# Altium footprint library USB_Host.PcbLib: 6 footprints
Each footprint in its own frame and in the unit in brackets; x right, y up, seen from the top. Pads: shape width x height; smd on the part's side, far side on the other; paste and mask are expansions set on the pad; w line width, h text height; cw(c..) or ccw(c..) is an arc to the next point about the centre after c.
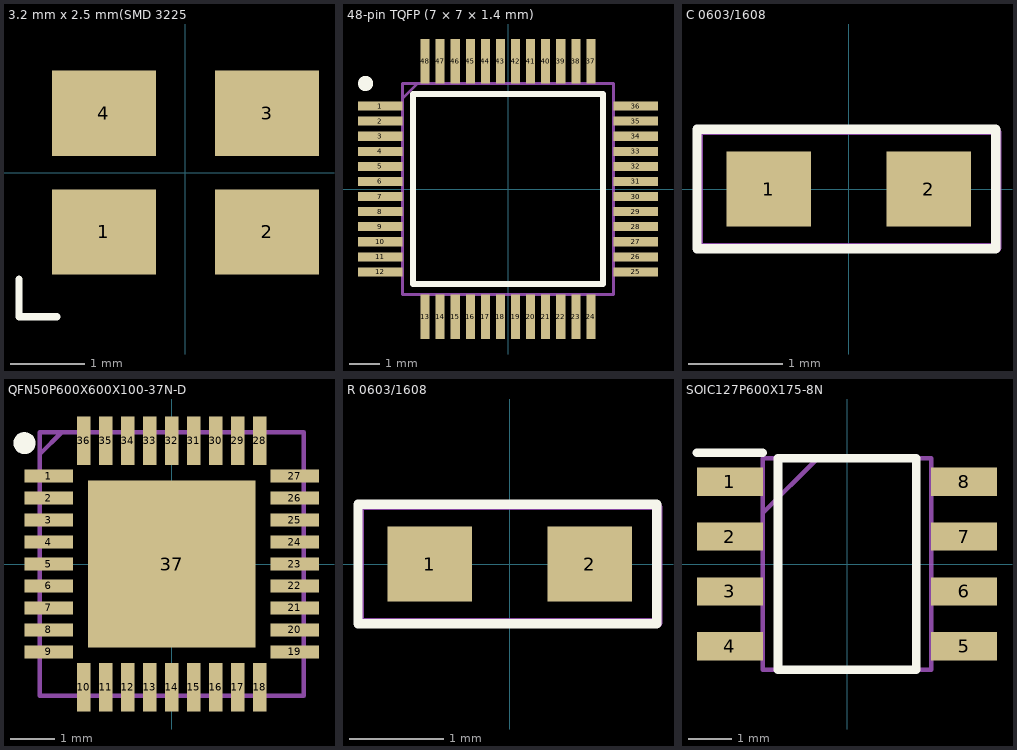
[diagram p0: the footprints below, top view; thin cyan lines are the x and y axes]

## 3.2 mm x 2.5 mm(SMD 3225 [mm] "SMD CRYSTAL 4P"
pads (4):
  rect 1.4x1.15 smd: 1(-1.1,-0.8) 2(1.1,-0.8) 3(1.1,0.8) 4(-1.1,0.8)
Top Overlay:
  lines w0.1: -2.243,-1.435 -2.243,-1.943 -1.735,-1.943
Mechanical 29 (Mech29):
  text ".Designator" at -1.862,-0.165 h1
3D body "User Library-User Library-Siward_SX3225.step": height 0.81, standoff 0, extent -1.557,-1.288 1.643,1.212

## 48-pin TQFP (7 × 7 × 1.4 mm) [mm]
pads (48):
  rect 1.475x0.3 smd: 1(-4.238,2.75) 2(-4.238,2.25) 3(-4.238,1.75) 4(-4.238,1.25) 5(-4.238,0.75) 6(-4.238,0.25) 7(-4.238,-0.25) 8(-4.238,-0.75) 9(-4.238,-1.25) 10(-4.238,-1.75) 11(-4.238,-2.25) 12(-4.238,-2.75) 25(4.238,-2.75) 26(4.238,-2.25) 27(4.238,-1.75) 28(4.238,-1.25) 29(4.238,-0.75) 30(4.238,-0.25) 31(4.238,0.25) 32(4.238,0.75) 33(4.238,1.25) 34(4.238,1.75) 35(4.238,2.25) 36(4.238,2.75)
  rect 0.3x1.475 smd: 13(-2.75,-4.238) 14(-2.25,-4.238) 15(-1.75,-4.238) 16(-1.25,-4.238) 17(-0.75,-4.238) 18(-0.25,-4.238) 19(0.25,-4.238) 20(0.75,-4.238) 21(1.25,-4.238) 22(1.75,-4.238) 23(2.25,-4.238) 24(2.75,-4.238) 37(2.75,4.238) 38(2.25,4.238) 39(1.75,4.238) 40(1.25,4.238) 41(0.75,4.238) 42(0.25,4.238) 43(-0.25,4.238) 44(-0.75,4.238) 45(-1.25,4.238) 46(-1.75,4.238) 47(-2.25,4.238) 48(-2.75,4.238)
Top Overlay:
  circle w0.25: c-4.725,3.5 r0.125
  lines w0.2: -3.15,-3.15 3.15,-3.15 3.15,3.15 -3.15,3.15 -3.15,-3.15
Mechanical 29 (Mech29):
  lines w0.1: -3.5,3 -3,3.5 ; -3.5,-3.5 3.5,-3.5 3.5,3.5 -3.5,3.5 -3.5,-3.5
  text ".Designator" at -2.286,-0.762 h1
3D body "ATMEGA4809-AFR.stp": height 1.2, standoff 0, extent -4.5,-4.5 4.5,4.5

## C 0603/1608 [mm]
pads (2):
  rect 0.9x0.8 smd: 1(-0.85,0) 2(0.85,0)
Top Overlay:
  lines w0.1: -1.612,-0.635 -1.612,0.635 1.563,0.635 1.563,-0.635 -1.612,-0.635
Mechanical 29 (Mech29):
  lines w0.1: -1.6,-0.625 -1.6,0.625 1.55,0.625 1.575,0.6 1.575,-0.625 -1.6,-0.625
  text ".Designator" at -1.4,-0.4 h0.8
3D body: height 0.64, standoff 0, extent -0.85,-0.4 0.85,0.4
3D body: height 0.64, standoff 0, extent -1.3,-0.4 -0.85,0.4
3D body: height 0.64, standoff 0, extent 0.85,-0.4 1.3,0.4

## QFN50P600X600X100-37N-D [mm]
pads (37):
  rect 1.1x0.3 smd: 1(-2.8,2) 2(-2.8,1.5) 3(-2.8,1) 4(-2.8,0.5) 5(-2.8,0) 6(-2.8,-0.5) 7(-2.8,-1) 8(-2.8,-1.5) 9(-2.8,-2) 19(2.8,-2) 20(2.8,-1.5) 21(2.8,-1) 22(2.8,-0.5) 23(2.8,0) 24(2.8,0.5) 25(2.8,1) 26(2.8,1.5) 27(2.8,2)
  rect 0.3x1.1 smd: 10(-2,-2.8) 11(-1.5,-2.8) 12(-1,-2.8) 13(-0.5,-2.8) 14(0,-2.8) 15(0.5,-2.8) 16(1,-2.8) 17(1.5,-2.8) 18(2,-2.8) 28(2,2.8) 29(1.5,2.8) 30(1,2.8) 31(0.5,2.8) 32(0,2.8) 33(-0.5,2.8) 34(-1,2.8) 35(-1.5,2.8) 36(-2,2.8)
  rect 3.8x3.8 smd: 37(0,0)
Top Overlay:
  circle w0.25: c-3.35,2.75 r0.125
Mechanical 29 (Mech29):
  lines w0.1: -3,2.5 -2.5,3 ; -3,-3 3,-3 3,3 -3,3 -3,-3
  text ".Designator" at -2,-0.635 h1
3D body "USB2512B-AEZG.stp": height 1, standoff 0, extent -3.05,-3.05 3.05,3.05

## R 0603/1608 [mm]
pads (2):
  rect 0.9x0.8 smd: 1(-0.85,0) 2(0.85,0)
Top Overlay:
  lines w0.1: -1.612,-0.635 1.563,-0.635 1.563,0.635 -1.612,0.635 -1.612,-0.635
Mechanical 29 (Mech29):
  lines w0.1: -1.6,-0.625 1.575,-0.625 1.575,0.6 1.55,0.625 -1.6,0.625 -1.6,-0.625
  text ".Designator" at -1.425,-0.4 h0.8
3D body: height 0.64, standoff 0, extent 0.85,-0.4 1.3,0.4
3D body: height 0.64, standoff 0, extent -1.3,-0.4 -0.85,0.4
3D body: height 0.64, standoff 0, extent -0.85,-0.4 0.85,0.4

## SOIC127P600X175-8N [mm]
pads (8):
  rect 1.525x0.65 smd: 1(-2.712,1.905) 2(-2.712,0.635) 3(-2.712,-0.635) 4(-2.712,-1.905) 5(2.712,-1.905) 6(2.712,-0.635) 7(2.712,0.635) 8(2.712,1.905)
Top Overlay:
  lines w0.2: -3.475,2.58 -1.95,2.58 ; -1.6,-2.45 1.6,-2.45 1.6,2.45 -1.6,2.45 -1.6,-2.45
Mechanical 29 (Mech29):
  lines w0.1: -1.95,1.18 -0.68,2.45 ; -1.95,-2.45 1.95,-2.45 1.95,2.45 -1.95,2.45 -1.95,-2.45
  text ".Designator" at -0.635,-0.762 h1
3D body "NE555DR.stp": height 1.75, standoff 0, extent -3,-2.45 3,2.45